# Altium schematic symbol library EV-MICRO287-MINI.SCHLIB: 1 symbol
Pins are listed as number, name and electrical type; pins without a type are passive.

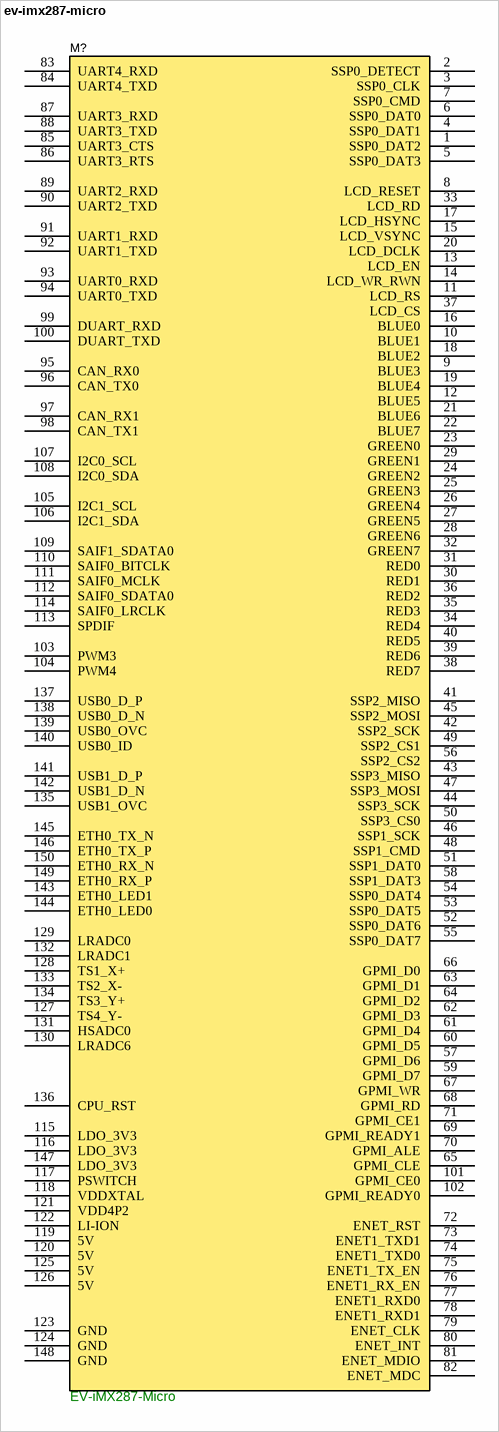
[diagram p0: symbol ev-imx287-micro]

## ev-imx287-micro
designator M?, comment EV-iMX287-Micro
footprint EVIMX287-MICRO
pins: 1 SSP0_DAT2 (power), 2 SSP0_DETECT (power), 3 SSP0_CLK (power), 4 SSP0_DAT1 (power), 5 SSP0_DAT3 (power), 6 SSP0_DAT0 (power), 7 SSP0_CMD (power), 8 LCD_RESET (power), 9 BLUE3 (power), 10 BLUE1 (power), 11 LCD_RS (power), 12 BLUE5 (power), 13 LCD_EN (power), 14 LCD_WR_RWN (power), 15 LCD_VSYNC (power), 16 BLUE0 (power), 17 LCD_HSYNC (power), 18 BLUE2 (power), 19 BLUE4 (power), 20 LCD_DCLK (power), 21 BLUE6 (power), 22 BLUE7 (power), 23 GREEN0 (power), 24 GREEN2 (power), 25 GREEN3 (power), 26 GREEN4 (power), 27 GREEN5 (power), 28 GREEN6 (power), 29 GREEN1 (power), 30 RED1 (power), 31 RED0 (power), 32 GREEN7 (power), 33 LCD_RD (power), 34 RED4 (power), 35 RED3 (power), 36 RED2 (power), 37 LCD_CS (power), 38 RED7 (power), 39 RED6 (power), 40 RED5 (power), 41 SSP2_MISO (power), 42 SSP2_SCK (power), 43 SSP3_MISO (power), 44 SSP3_SCK (power), 45 SSP2_MOSI (power), 46 SSP1_SCK (power), 47 SSP3_MOSI (power), 48 SSP1_CMD (power), 49 SSP2_CS1 (power), 50 SSP3_CS0 (power), 51 SSP1_DAT0 (power), 52 SSP0_DAT6 (power), 53 SSP0_DAT5 (power), 54 SSP0_DAT4 (power), 55 SSP0_DAT7 (power), 56 SSP2_CS2 (power), 57 GPMI_D6 (power), 58 SSP1_DAT3 (power), 59 GPMI_D7 (power), 60 GPMI_D5 (power), 61 GPMI_D4 (power), 62 GPMI_D3 (power), 63 GPMI_D1 (power), 64 GPMI_D2 (power), 65 GPMI_CLE (power), 66 GPMI_D0 (power), 67 GPMI_WR (power), 68 GPMI_RD (power), 69 GPMI_READY1 (power), 70 GPMI_ALE (power), 71 GPMI_CE1 (power), 72 ENET_RST (power), 73 ENET1_TXD1 (power), 74 ENET1_TXD0 (power), 75 ENET1_TX_EN (power), 76 ENET1_RX_EN (power), 77 ENET1_RXD0 (power), 78 ENET1_RXD1 (power), 79 ENET_CLK (power), 80 ENET_INT (power), 81 ENET_MDIO (power), 82 ENET_MDC (power), 83 UART4_RXD (power), 84 UART4_TXD (power), 85 UART3_CTS (power), 86 UART3_RTS (power), 87 UART3_RXD (power), 88 UART3_TXD (power), 89 UART2_RXD (power), 90 UART2_TXD (power), 91 UART1_RXD (power), 92 UART1_TXD (power), 93 UART0_RXD (power), 94 UART0_TXD (power), 95 CAN_RX0 (power), 96 CAN_TX0 (power), 97 CAN_RX1 (power), 98 CAN_TX1 (power), 99 DUART_RXD (power), 100 DUART_TXD (power), 101 GPMI_CE0 (power), 102 GPMI_READY0 (power), 103 PWM3 (power), 104 PWM4 (power), 105 I2C1_SCL (power), 106 I2C1_SDA (power), 107 I2C0_SCL (power), 108 I2C0_SDA (power), 109 SAIF1_SDATA0 (power), 110 SAIF0_BITCLK (power), 111 SAIF0_MCLK (power), 112 SAIF0_SDATA0 (power), 113 SPDIF (power), 114 SAIF0_LRCLK (power), 115 LDO_3V3 (power), 116 LDO_3V3 (power), 117 PSWITCH (power), 118 VDDXTAL (power), 119 5V (power), 120 5V (power), 121 VDD4P2 (power), 122 LI-ION (power), 123 GND (power), 124 GND (power), 125 5V (power), 126 5V (power), 127 TS4_Y- (power), 128 TS1_X+ (power), 129 LRADC0 (power), 130 LRADC6 (power), 131 HSADC0 (power), 132 LRADC1 (power), 133 TS2_X- (power), 134 TS3_Y+ (power), 135 USB1_OVC (power), 136 CPU_RST (power), 137 USB0_D_P (power), 138 USB0_D_N (power), 139 USB0_OVC (power), 140 USB0_ID (power), 141 USB1_D_P (power), 142 USB1_D_N (power), 143 ETH0_LED1 (power), 144 ETH0_LED0 (power), 145 ETH0_TX_N (power), 146 ETH0_TX_P (power), 147 LDO_3V3 (power), 148 GND (power), 149 ETH0_RX_P (power), 150 ETH0_RX_N (power)